# Altium footprint library TPS62147RGXT.PcbLib: 1 footprints
Each footprint in its own frame and in the unit in brackets; x right, y up, seen from the top. Pads: shape width x height; smd on the part's side, far side on the other; paste and mask are expansions set on the pad; w line width, h text height; cw(c..) or ccw(c..) is an arc to the next point about the centre after c.
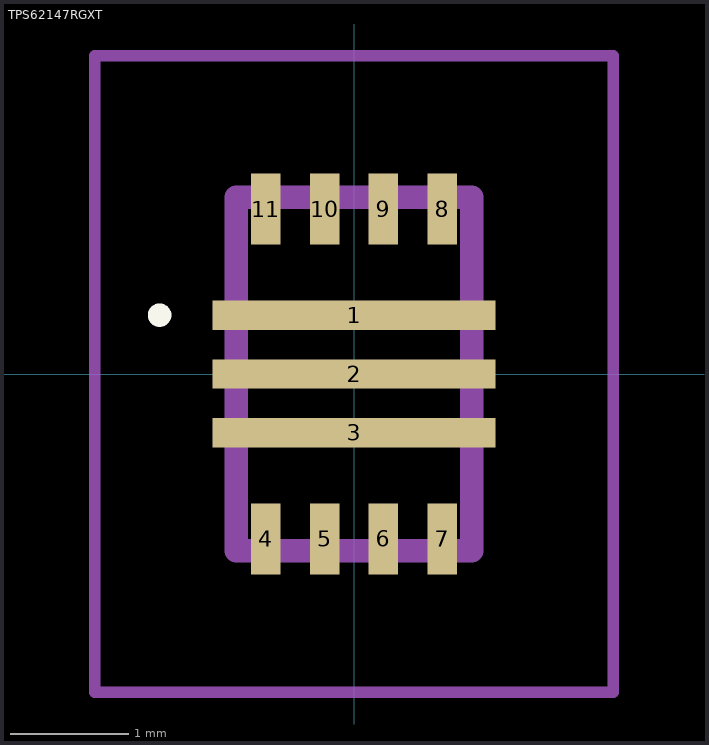
[diagram p0: the footprint, top view; thin cyan lines are the x and y axes]

## TPS62147RGXT [mm]
pads (11):
  rect 2.4x0.25 smd: 1(0,0.5) 2(0,0) 3(0,-0.5)
  rect 0.25x0.6 smd: 4(-0.75,-1.4) 5(-0.25,-1.4) 6(0.25,-1.4) 7(0.75,-1.4) 8(0.75,1.4) 9(0.25,1.4) 10(-0.25,1.4) 11(-0.75,1.4)
Top Overlay:
  lines w0.1: -1.7,0.5 cw(c-1.65,0.5) -1.6,0.5 ; -1.7,0.5 -1.7,0.5 ; -1.7,0.5 ccw(c-1.65,0.5) -1.6,0.5 ; -1.6,0.5 -1.6,0.5
Mechanical 15:
  lines w0.2: -1,-1.5 1,-1.5 1,1.5 -1,1.5 -1,-1.5
Mechanical 20:
  lines w0.1: -2.2,-2.7 2.2,-2.7 2.2,2.7 -2.2,2.7 -2.2,-2.7